# Altium footprint library RTD34012F.PcbLib: 1 footprints
Each footprint in its own frame and in the unit in brackets; x right, y up, seen from the top. Pads: shape width x height; smd on the part's side, far side on the other; paste and mask are expansions set on the pad; w line width, h text height; cw(c..) or ccw(c..) is an arc to the next point about the centre after c.
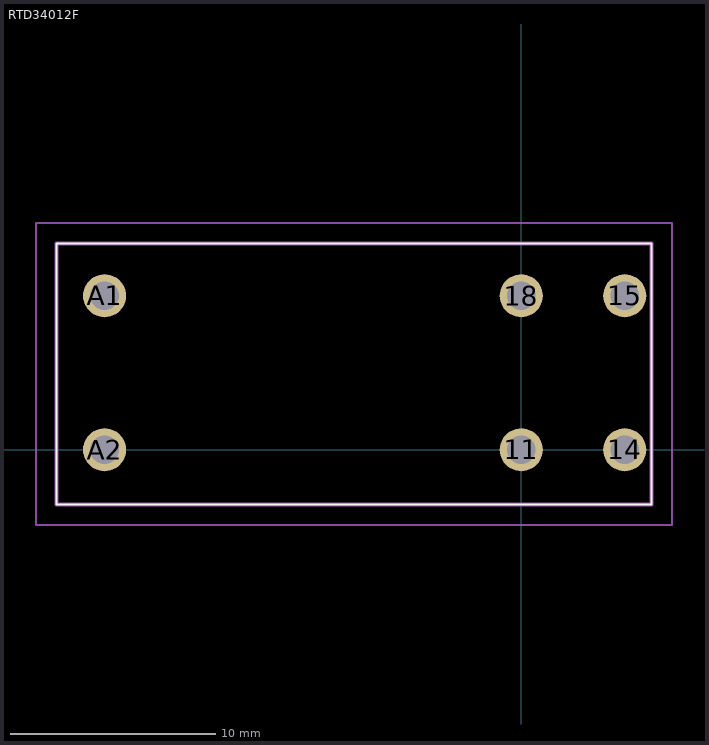
[diagram p0: the footprint, top view; thin cyan lines are the x and y axes]

## RTD34012F [mm]
pads (6):
  round 2.1 hole 1.4: 11(0,0) 14(5.04,0) 15(5.04,7.5) 18(0,7.5) A1(-20.3,7.5) A2(-20.3,0)
Top Overlay:
  lines w0.1: -22.65,-2.66 6.35,-2.66 6.35,10.04 -22.65,10.04 -22.65,-2.66
Mechanical 15:
  lines w0.2: -22.65,-2.66 6.35,-2.66 6.35,10.04 -22.65,10.04 -22.65,-2.66
Mechanical 20:
  lines w0.1: -23.65,-3.66 7.35,-3.66 7.35,11.04 -23.65,11.04 -23.65,-3.66